# Altium integrated library Operacionales.IntLib: 7 symbols
Pins are listed as number, name and electrical type; pins without a type are passive.

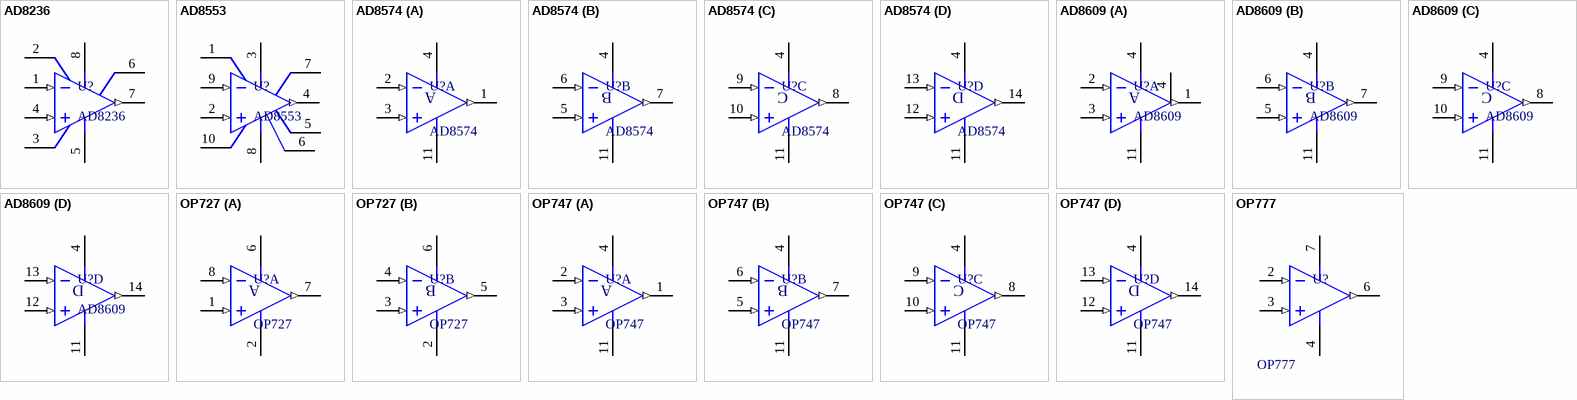
[diagram p0: symbols AD8236 to OP777]

## AD8236
designator U?
In-Amp; Manufacturer: ANALOG DEVICES; Auth.: ROUX, Federico G.; Mail: rouxfederico@gmail.com; Employer: NEROX S.R.L.; Description: 40uA Micropower Instrumentation Amplifier with Zero Crossover Distortion; Dat.: 20.10.2011; Part: AD8236; URL: www.analog.com
footprint RM-8 (Shrink Small Outline, MSOP; 8 Leads; Body Width 3 mm; Pitch 0.65 mm)
pins: 1 -IN (in), 2 RGA, 3 RGB, 4 +IN (in), 5 V- (power), 6 REF, 7 OUT (out), 8 V+ (power)

## AD8553
designator U?
In-Amp; Part: AD8236; Manufacturer: ANALOG DEVICES; Auth: ROUX, Federico G.; Mail: rouxfederico@gmail.com; Employer: NEROX S.R.L.; Description: 1.8V to 5V Auto-Zero, In-Amp with Shutdown; Dat.: 20.10.2011; URL: www.analog.com
footprint RM-10 (Shrink Small Outline, MSOP; 10 Leads; Body Width 3 mm; Pitch 0.5 mm)
pins: 1 RGA, 2 VINP (in), 3 VCC (power), 4 VO (out), 5 VFB, 6 ENABLE, 7 VREF, 8 GND (power), 9 VINN (in), 10 RGB

## AD8574
designator U?
Quad Op-Amp; Manufacturer: Analog Devices; Autor: ROUX, Federico G.; E-Mail: rouxfederico@gmail.com; Descripcion: Zero-Drift, Single-Supply, Rail-to-Rail I/O Quad, Operational Amplifier; Part: AD8574; URL: http://www.analog.com; Fecha: 26.06.2012
footprint RU-14 (Shrink Small Outline, TSSOP; 14 Leads; Body Width 4.4 mm; Pitch 0.65 mm)
part A pins: 1 OUT A (out), 2 -IN A (in), 3 +IN A (in), 4 V+ (power), 11 V- (power)
part B pins: 4 V+ (power), 5 +IN B (in), 6 -IN B (in), 7 OUT B (out), 11 V- (power)
part C pins: 4 V+ (power), 8 OUT C (out), 9 -IN C (in), 10 +IN C (in), 11 V- (power)
part D pins: 4 V+ (power), 11 V- (power), 12 +IN D (in), 13 -IN D (in), 14 OUT D (out)
part A text: A
part B text: B
part C text: C
part D text: D

## AD8609
designator U?
Quad Op-Amp; Manufacturer: ANALOG DEVICES; Auth.: ROUX, Federico G. (rouxfederico@gmail.com); Company: NEROX S.R.L.; Description: Precision Micropower Low Noise CMOS Rail-to-Rail I/O Operational Amplifiers; Part: AD8609; URL: www.analog.com; Dat.: 19.11.2011
footprint RU-14 (Shrink Small Outline, TSSOP; 14 Leads; Body Width 4.4 mm; Pitch 0.65 mm)
footprint R-14_L (SOIC, 14-Leads, Body 8.7x3.9mm, Pitch 1.27mm, IPC High Density)
footprint R-14_M (SOIC, 14-Leads, Body 8.7x3.9mm, Pitch 1.27mm, IPC Low Density)
footprint R-14_N (SOIC, 14-Leads, Body 8.7x3.9mm, Pitch 1.27mm, IPC Medium Density)
part A pins: 1 OUT A (out), 2 -IN A (in), 3 +IN A (in), 4 V+ (power), 4 V+ (power), 11 V- (power)
part B pins: 4 V+ (power), 5 +IN B (in), 6 -IN B (in), 7 OUT B (out), 11 V- (power)
part C pins: 4 V+ (power), 8 OUT C (out), 9 -IN C (in), 10 +IN C (in), 11 V- (power)
part D pins: 4 V+ (power), 11 V- (power), 12 +IN D (in), 13 -IN D (in), 14 OUT D (out)
part A text: A
part B text: B
part C text: C
part D text: D

## OP727
designator U?
Dual Op-Amp; Manufacturer: Analog Devices; Autor: ROUX, Federico G.; E-Mail: rouxfederico@gmail.com; Descripcion: Precision Micropower Single-Supply Operational Amplifiers; Part: OP727; URL: http://www.analog.com; Fecha: 05.07.2011
footprint R-8_N (SOIC, 8-Leads, Body 4.9x3.9mm, Pitch 1.27mm, IPC Medium Density)
footprint R-8_M (SOIC, 8-Leads, Body 4.9x3.9mm, Pitch 1.27mm, IPC Low Density)
footprint R-8_L (SOIC, 8-Leads, Body 4.9x3.9mm, Pitch 1.27mm, IPC High Density)
footprint R-8D_N (SOIC, 8-Leads, Body 4.9x3.9mm, Pitch 1.27mm, IPC Medium Density)
footprint R-8D_M (SOIC, 8-Leads, Body 4.9x3.9mm, Pitch 1.27mm, IPC Low Density)
footprint R-8D_L (SOIC, 8-Leads, Body 4.9x3.9mm, Pitch 1.27mm, IPC High Density)
footprint R-8C_N (SOIC, 8-Leads, Body 4.9x3.9mm, Pitch 1.27mm, IPC Medium Density)
footprint R-8C_M (SOIC, 8-Leads, Body 4.9x3.9mm, Pitch 1.27mm, IPC Low Density)
footprint R-8C_L (SOIC, 8-Leads, Body 4.9x3.9mm, Pitch 1.27mm, IPC High Density)
footprint RU-8 (Shrink Small Outline; 8 Leads; Body Width 4.4 mm; Pitch 0.65 mm); pin to pad 1>3 2>4 3>5 4>6 5>7 6>8 7>1 8>2
part A pins: 1 +IN A (in), 2 V- (power), 6 V+ (power), 7 OUT A (out), 8 -IN A (in)
part B pins: 2 V- (power), 3 +IN B (in), 4 -IN B (in), 5 OUT B (out), 6 V+ (power)
part A text: A
part B text: B

## OP747
designator U?
Quad Op-Amp; Manufacturer: Analog Devices; Autor: ROUX, Federico G.; E-Mail: rouxfederico@gmail.com; Descripcion: Precision Micropower Single-Supply Operational Amplifiers; Part: OP747; URL: http://www.analog.com; Fecha: 26.06.2012
footprint R-14_L (SOIC, 14-Leads, Body 8.7x3.9mm, Pitch 1.27mm, IPC High Density)
footprint R-14_M (SOIC, 14-Leads, Body 8.7x3.9mm, Pitch 1.27mm, IPC Low Density)
footprint R-14_N (SOIC, 14-Leads, Body 8.7x3.9mm, Pitch 1.27mm, IPC Medium Density)
footprint RU-14 (Shrink Small Outline, TSSOP; 14 Leads; Body Width 4.4 mm; Pitch 0.65 mm)
part A pins: 1 OUT A (out), 2 -IN A (in), 3 +IN A (in), 4 V+ (power), 11 V- (power)
part B pins: 4 V+ (power), 5 +IN B (in), 6 -IN B (in), 7 OUT B (out), 11 V- (power)
part C pins: 4 V+ (power), 8 OUT C (out), 9 -IN C (in), 10 +IN C (in), 11 V- (power)
part D pins: 4 V+ (power), 11 V- (power), 12 +IN D (in), 13 -IN D (in), 14 OUT D (out)
part A text: A
part B text: B
part C text: C
part D text: D

## OP777
designator U?
Single Op-Amp; Fabricante: Analog Devices; Autor: ROUX, Federico G.; e-mail: rouxfederico@gmail.com; Descripcion: Precision Micropower Single-Supply Operational Amplifier; Name: OP777; URL: http://www.analog.com/; Fecha: 05.07.2011
footprint RM-8 (Shrink Small Outline, MSOP; 8 Leads; Body Width 3 mm; Pitch 0.65 mm)
footprint R-8_N (SOIC, 8-Leads, Body 4.9x3.9mm, Pitch 1.27mm, IPC Medium Density)
footprint R-8_M (SOIC, 8-Leads, Body 4.9x3.9mm, Pitch 1.27mm, IPC Low Density)
footprint R-8_L (SOIC, 8-Leads, Body 4.9x3.9mm, Pitch 1.27mm, IPC High Density)
footprint R-8D_N (SOIC, 8-Leads, Body 4.9x3.9mm, Pitch 1.27mm, IPC Medium Density)
footprint R-8D_M (SOIC, 8-Leads, Body 4.9x3.9mm, Pitch 1.27mm, IPC Low Density)
footprint R-8D_L (SOIC, 8-Leads, Body 4.9x3.9mm, Pitch 1.27mm, IPC High Density)
footprint R-8C_N (SOIC, 8-Leads, Body 4.9x3.9mm, Pitch 1.27mm, IPC Medium Density)
footprint R-8C_M (SOIC, 8-Leads, Body 4.9x3.9mm, Pitch 1.27mm, IPC Low Density)
footprint R-8C_L (SOIC, 8-Leads, Body 4.9x3.9mm, Pitch 1.27mm, IPC High Density)
pins: 2 IN- (in), 3 IN+ (in), 4 V- (power), 6 OUT (out), 7 V+ (power)